# Altium footprint library PcbLib2.PcbLib: 6 footprints
Each footprint in its own frame and in the unit in brackets; x right, y up, seen from the top. Pads: shape width x height; smd on the part's side, far side on the other; paste and mask are expansions set on the pad; w line width, h text height; cw(c..) or ccw(c..) is an arc to the next point about the centre after c.
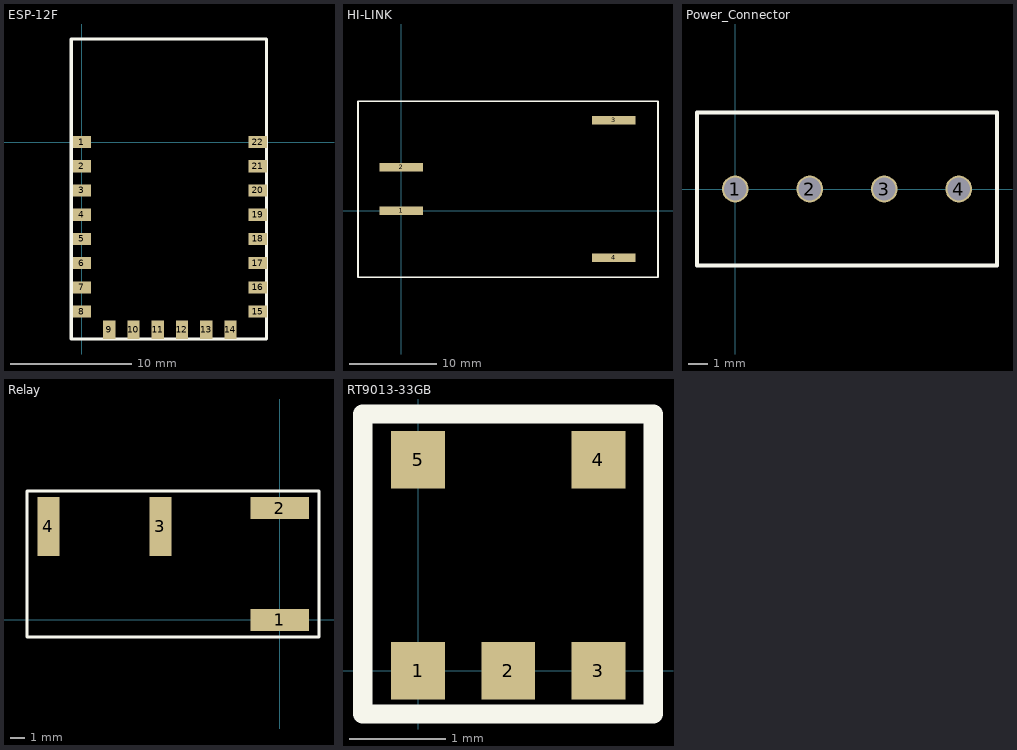
[diagram p0: the footprints below, top view; thin cyan lines are the x and y axes]

## ESP-12F [mm]
pads (22):
  rect 1.5x1 smd: 1(0,0) 2(0,-2) 3(0,-4) 4(0,-6) 5(0,-8) 6(0,-10) 7(0,-12) 8(0,-14) 15(14.5,-14) 16(14.5,-12) 17(14.5,-10) 18(14.5,-8) 19(14.5,-6) 20(14.5,-4) 21(14.5,-2) 22(14.5,0)
  rect 1x1.5 smd: 9(2.25,-15.5) 10(4.25,-15.5) 11(6.25,-15.5) 12(8.25,-15.5) 13(10.25,-15.5) 14(12.25,-15.5)
Top Overlay:
  lines w0.254: -0.889,-16.256 -0.889,8.5 15.24,8.5 15.24,-16.256 -0.889,-16.256

## HI-LINK [mm]
pads (4):
  rect 5x1 smd: 1(0,0) 2(0,5) 3(24.4,10.4) 4(24.4,-5.4)
Top Overlay:
  lines w0.2: -4.953,-7.62 -4.953,12.573 29.464,12.573 29.464,-7.62 -4.953,-7.62

## PCBComponent_1 [mm]

## Power_Connector [mm]
pads (4):
  round 1.4 hole 1.2: 1(0,0) 2(3.9,0) 3(7.8,0) 4(11.7,0)
Top Overlay:
  lines w0.2: -2,-4 13.7,-4 13.7,4 -2,4 -2,-4

## Relay [mm]
pads (4):
  rect 4x1.5 smd: 1(0,0) 2(0,7.6)
  rect 1.5x4 smd: 3(-8.1,6.35) 4(-15.7,6.35)
Top Overlay:
  lines w0.2: -17.145,-1.15 2.667,-1.15 ; -17.145,-1.143 -17.145,8.763 ; -17.145,8.75 2.667,8.75 ; 2.667,-1.143 2.667,8.763

## RT9013-33GB [mm]
pads (5):
  rect 0.56x0.6 smd: 1(0,0) 2(0.94,0) 3(1.88,0) 4(1.88,2.2) 5(0,2.2)
Top Overlay:
  lines w0.2: -0.575,-0.45 -0.575,2.675 2.45,2.675 2.45,-0.45 -0.575,-0.45